# Altium schematic symbol library STM32 Blue Pill.Schlib: 1 symbol
Pins are listed as number, name and electrical type; pins without a type are passive.

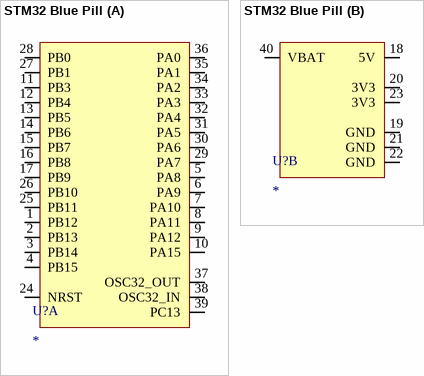
[diagram p0: symbol STM32 Blue Pill]

## STM32 Blue Pill
designator U?
part A pins: 1 PB12, 2 PB13, 3 PB14, 4 PB15, 5 PA8, 6 PA9, 7 PA10, 8 PA11, 9 PA12, 10 PA15, 11 PB3, 12 PB4, 13 PB5, 14 PB6, 15 PB7, 16 PB8, 17 PB9, 24 NRST, 25 PB11, 26 PB10, 27 PB1, 28 PB0, 29 PA7, 30 PA6, 31 PA5, 32 PA4, 33 PA3, 34 PA2, 35 PA1, 36 PA0, 37 OSC32_OUT, 38 OSC32_IN, 39 PC13
part B pins: 18 5V, 19 GND, 20 3V3, 21 GND, 22 GND, 23 3V3, 40 VBAT